# Altium integrated library AD9226.IntLib: 1 symbol
Pins are listed as number, name and electrical type; pins without a type are passive.

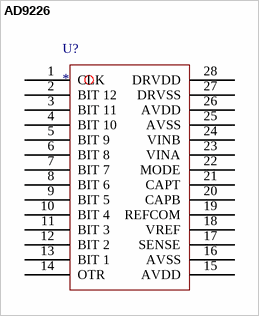
[diagram p0: symbol AD9226]

## AD9226
designator U?
footprint AD9226(SOP65P780X198-28N) (SOP, 28-Leads, Body 10.21x5.30mm, Pitch 0.65mm, IPC Medium Density)
pins: 1 CLK, 2 BIT 12, 3 BIT 11, 4 BIT 10, 5 BIT 9, 6 BIT 8, 7 BIT 7, 8 BIT 6, 9 BIT 5, 10 BIT 4, 11 BIT 3, 12 BIT 2, 13 BIT 1, 14 OTR, 15 AVDD, 16 AVSS, 17 SENSE, 18 VREF, 19 REFCOM, 20 CAPB, 21 CAPT, 22 MODE, 23 VINA, 24 VINB, 25 AVSS, 26 AVDD, 27 DRVSS, 28 DRVDD